# Altium schematic symbol library CAP,Cer,56nF,16VDC,X7R,0603.Schlib: 1 symbol
Pins are listed as number, name and electrical type; pins without a type are passive.

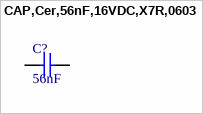
[diagram p0: symbol CAP,Cer,56nF,16VDC,X7R,0603]

## CAP,Cer,56nF,16VDC,X7R,0603
designator C?, comment 56nF
56 nF ±10% 16V Ceramic Capacitor X7R 0603 (1608 Metric)
pins: 1, 2